# EAGLE library part CTS742C083 (library Explore Labs EAGLE Library)
Chip Resistor Array 4 Single Resistor Source: http://www.ctscorp.com/components/Datasheets/CTSChipArrayDs.pdf
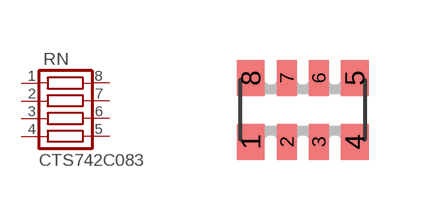
[diagram p2: symbol with the pads of CTS742C083; footprint CTS742C083]

Designator prefix RN

## CTS742C083 (OC_FARNELL: unknown; OC_NEWARK: unknown)  [CTS742C083]
1  1  pas
2  2  pas
3  3  pas
4  4  pas
5  5  pas
6  6  pas
7  7  pas
8  8  pas

## Footprint CTS742C083 (pad centres in mm)
Chip Resistor Array Source: http://www.ctscorp.com/components/Datasheets/CTSChipArrayDs.pdf
smd 0.7 x 0.9: 1 -1.3,-0.8; 4 1.3,-0.8; 5 1.3,0.8; 8 -1.3,0.8
smd 0.5 x 0.9: 2 -0.4,-0.8; 3 0.4,-0.8; 6 0.4,0.8; 7 -0.4,0.8